# Altium footprint library PCB - LEADLESS - QFN - TI VQFN-24 RHL0024A.PcbLib: 1 footprints
Each footprint in its own frame and in the unit in brackets; x right, y up, seen from the top. Pads: shape width x height; smd on the part's side, far side on the other; paste and mask are expansions set on the pad; w line width, h text height; cw(c..) or ccw(c..) is an arc to the next point about the centre after c.
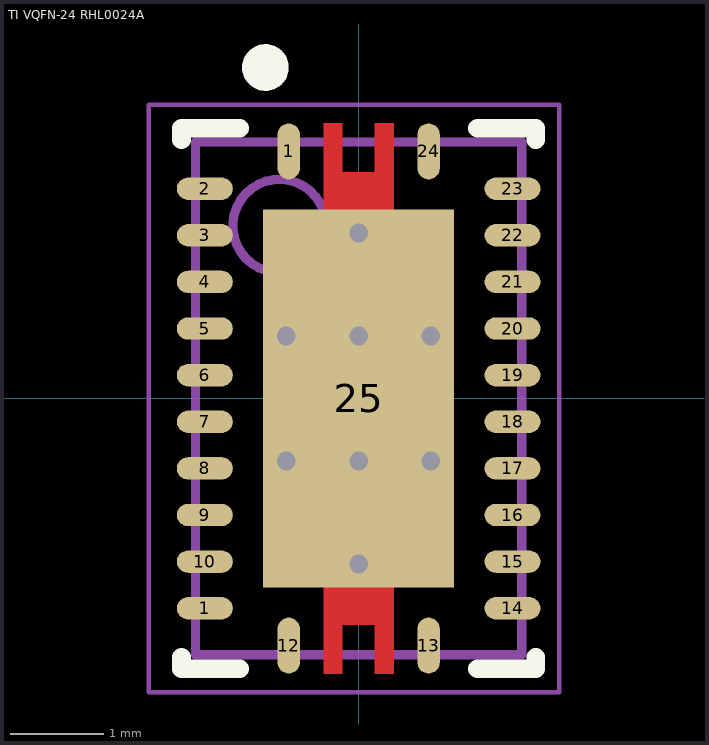
[diagram p0: the footprint, top view; thin cyan lines are the x and y axes]

## TI VQFN-24 RHL0024A [mm] "QFN, 24-Leads, Body 3.50x5.50mm, Pitch 1.50mm/0.50mm, Thermal Pad 2.05x4.05mm, IPC Medium Density"
height 1
pads (25):
  oval 0.6x0.24 smd: 1(-1.65,-2.25) 2(-1.65,2.25) 3(-1.65,1.75) 4(-1.65,1.25) 5(-1.65,0.75) 6(-1.65,0.25) 7(-1.65,-0.25) 8(-1.65,-0.75) 9(-1.65,-1.25) 10(-1.65,-1.75) 14(1.65,-2.25) 15(1.65,-1.75) 16(1.65,-1.25) 17(1.65,-0.75) 18(1.65,-0.25) 19(1.65,0.25) 20(1.65,0.75) 21(1.65,1.25) 22(1.65,1.75) 23(1.65,2.25)
  oval 0.24x0.6 smd: 1(-0.75,2.65) 12(-0.75,-2.65) 13(0.75,-2.65) 24(0.75,2.65)
  rect 2.05x4.05 smd: 25(0,0)
via -0.775,-0.67 diameter 0.5 hole 0.2
via -0.775,0.67 diameter 0.5 hole 0.2
via 0.775,0.67 diameter 0.5 hole 0.2
via 0.775,-0.67 diameter 0.5 hole 0.2
via 0,-1.775 diameter 0.5 hole 0.2
via 0,1.775 diameter 0.5 hole 0.2
via 0,-0.67 diameter 0.5 hole 0.2
via 0,0.67 diameter 0.5 hole 0.2
Top Layer:
  region: 0.375,2.95 0.375,2 -0.375,2 -0.375,2.95 -0.175,2.95 -0.175,2.425 0.175,2.425 0.175,2.95
  region: -0.375,-2.95 -0.375,-2 0.375,-2 0.375,-2.95 0.175,-2.95 0.175,-2.425 -0.175,-2.425 -0.175,-2.95
Top Overlay:
  circle w0.25: c-1,3.55 r0.125
  lines w0.2: -1.9,-2.775 -1.9,-2.9 -1.275,-2.9 ; -1.9,2.775 -1.9,2.9 -1.275,2.9 ; 1.275,-2.9 1.9,-2.9 1.9,-2.775 ; 1.275,2.9 1.9,2.9 1.9,2.775
Mechanical 13:
  circle w0.1: c-0.85,1.85 r0.5
  lines w0.1: -1.75,-2.75 -1.75,2.75 1.75,2.75 1.75,-2.75 -1.75,-2.75
Mechanical 15:
  lines w0.05: -2.25,-3.15 -2.25,3.15 2.15,3.15 2.15,-3.15 -2.25,-3.15
  lines w0.1: -0.5,0 0.5,0 ; 0,-0.5 0,0.5
3D body "TI - VQFN-24 - RHL0024A v1.step": height 1, standoff 0, extent -1.75,-2.75 1.75,2.75